# Altium footprint library PCB - RESISTOR - KRL2012E-M-R003-F-T5.PcbLib: 4 footprints
Each footprint in its own frame and in the unit in brackets; x right, y up, seen from the top. Pads: shape width x height; smd on the part's side, far side on the other; paste and mask are expansions set on the pad; w line width, h text height; cw(c..) or ccw(c..) is an arc to the next point about the centre after c.
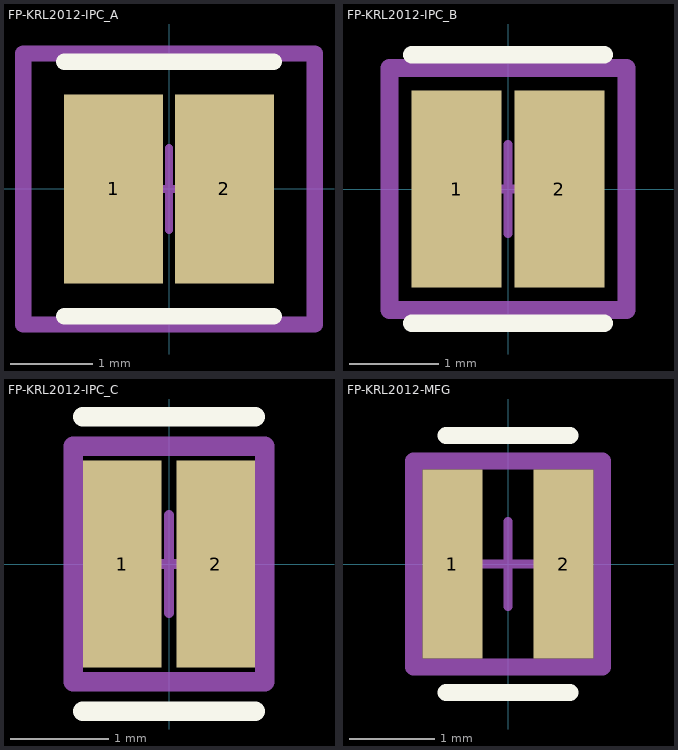
[diagram p0: the footprints below, top view; thin cyan lines are the x and y axes]

## FP-KRL2012-IPC_A [mm]
pads (2):
  rect 1.203x2.306 smd paste+0 mask+0: 1(-0.677,0) 2(0.676,0)
Top Overlay:
  lines w0.2: -1.278,-1.553 1.278,-1.553 ; -1.278,1.553 1.278,1.553
Top Assembly:
  lines w0.2: -1.778,-1.653 -1.778,1.653 1.778,1.653 1.778,-1.653 -1.778,-1.653
Top Courtyard:
  lines w0.2: -1.778,-1.653 -1.778,1.653 1.778,1.653 1.778,-1.653 -1.778,-1.653
Top Designator:
  text ".Designator" at 0,0.188 h1
Top Component Center:
  lines w0.1: -0.5,0 0.5,0 ; 0,-0.5 0,0.5
3D body "Res_Susumu_KRL2012E-M-R006-F-T5_eec.STEP": height 0.25, standoff 0, extent -1.778,-1.653 1.778,1.653

## FP-KRL2012-IPC_B [mm]
pads (2):
  rect 1.003x2.206 smd paste+0 mask+0: 1(-0.577,0) 2(0.576,0)
Top Overlay:
  lines w0.2: -1.078,-1.503 1.078,-1.503 ; -1.078,1.503 1.078,1.503
Top Assembly:
  lines w0.2: -1.328,-1.353 1.328,-1.353 1.328,1.353 -1.328,1.353 -1.328,-1.353
Top Courtyard:
  lines w0.2: -1.328,-1.353 1.328,-1.353 1.328,1.353 -1.328,1.353 -1.328,-1.353
Top Designator:
  text ".Designator" at 0,0.188 h1
Top Component Center:
  lines w0.1: -0.5,0 0.5,0 ; 0,-0.5 0,0.5
3D body "Res_Susumu_KRL2012E-M-R006-F-T5_eec.STEP": height 0.25, standoff 0, extent -1.328,-1.353 1.328,1.353

## FP-KRL2012-IPC_C [mm]
pads (2):
  rect 0.803x2.106 smd paste+0 mask+0: 1(-0.477,0) 2(0.476,0)
Top Overlay:
  lines w0.2: -0.878,-1.5 0.878,-1.5 ; -0.878,1.5 0.878,1.5
Top Assembly:
  lines w0.2: -0.978,-1.2 0.978,-1.2 0.978,1.2 -0.978,1.2 -0.978,-1.2
Top Courtyard:
  lines w0.2: -0.978,-1.2 0.978,-1.2 0.978,1.2 -0.978,1.2 -0.978,-1.2
Top Designator:
  text ".Designator" at 0,0.188 h1
Top Component Center:
  lines w0.1: -0.5,0 0.5,0 ; 0,-0.5 0,0.5
3D body "Res_Susumu_KRL2012E-M-R006-F-T5_eec.STEP": height 0.25, standoff 0, extent -0.978,-1.2 0.978,1.2

## FP-KRL2012-MFG [mm]
pads (2):
  rect 0.7x2.2 smd paste+0 mask+0: 1(-0.65,0) 2(0.65,0)
Top Overlay:
  lines w0.2: -0.725,-1.5 0.725,-1.5 ; -0.725,1.5 0.725,1.5
Top Assembly:
  lines w0.2: -1.1,-1.2 1.1,-1.2 1.1,1.2 -1.1,1.2 -1.1,-1.2
Top Courtyard:
  lines w0.2: -1.1,-1.2 1.1,-1.2 1.1,1.2 -1.1,1.2 -1.1,-1.2
Top Designator:
  text ".Designator" at 0,0.188 h1
Top Component Center:
  lines w0.1: -0.5,0 0.5,0 ; 0,-0.5 0,0.5
3D body "Res_Susumu_KRL2012E-M-R006-F-T5_eec.STEP": height 0.25, standoff 0, extent -1.1,-1.2 1.1,1.2